# Altium footprint library SC-07-650.PcbLib: 1 footprints
Each footprint in its own frame and in the unit in brackets; x right, y up, seen from the top. Pads: shape width x height; smd on the part's side, far side on the other; paste and mask are expansions set on the pad; w line width, h text height; cw(c..) or ccw(c..) is an arc to the next point about the centre after c.
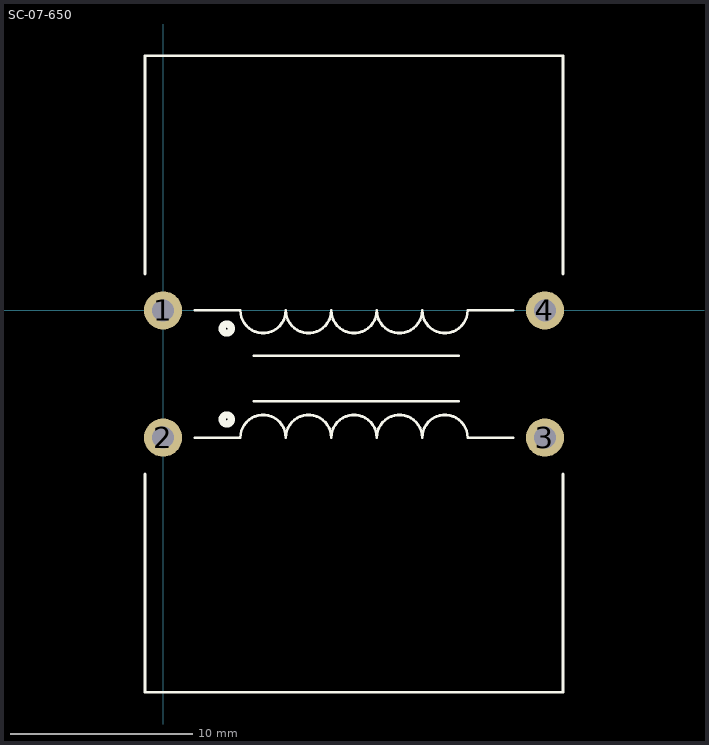
[diagram p0: the footprint, top view; thin cyan lines are the x and y axes]

## SC-07-650 [mm]
pads (4):
  round 2.1 hole 1.2 mask+0.05: 1(0,0) 2(0,-7) 3(21,-7) 4(21,0)
Top Overlay:
  circle w0.4: c3.5,-6 r0.25
  circle w0.4: c3.5,-1 r0.25
  lines w0.15: -1,-9 -1,-21 22,-21 22,-14.25 22,-9 ; -1,2 -1,7.25 -1,14 22,14 22,2 ; 1.75,-7 4.25,-7 cw(c5.5,-7) 6.75,-7 cw(c8,-7) 9.25,-7 cw(c10.5,-7) 11.75,-7 cw(c13,-7) 14.25,-7 cw(c15.5,-7) 16.75,-7 19.25,-7 ; 1.75,0 4.25,0 ccw(c5.5,0) 6.75,0 ccw(c8,0) 9.25,0 ccw(c10.5,0) 11.75,0 ccw(c13,0) 14.25,0 ccw(c15.5,0) 16.75,0 19.25,0 ; 5,-5 16.25,-5 ; 5,-2.5 16.25,-2.5
3D body "SC-07-650.stp": height 30.86, standoff -14.93, extent -1,-21 22,14